# Altium schematic symbol library RES,40k2,0.5%,0.1W,0603.Schlib: 1 symbol
Pins are listed as number, name and electrical type; pins without a type are passive.

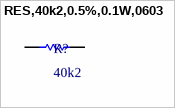
[diagram p0: symbol RES,40k2,0.5%,0.1W,0603]

## RES,40k2,0.5%,0.1W,0603
designator R?, comment 40k2
40.2 kOhms ±0.5% 0.1W, 1/10W Chip Resistor 0603 (1608 Metric)  Thin Film
pins: 1, 2